# Altium footprint library custom-case.PcbLib: 20 footprints (part 1 of 2)
Each footprint in its own frame and in the unit in brackets; x right, y up, seen from the top. Pads: shape width x height; smd on the part's side, far side on the other; paste and mask are expansions set on the pad; w line width, h text height; cw(c..) or ccw(c..) is an arc to the next point about the centre after c.
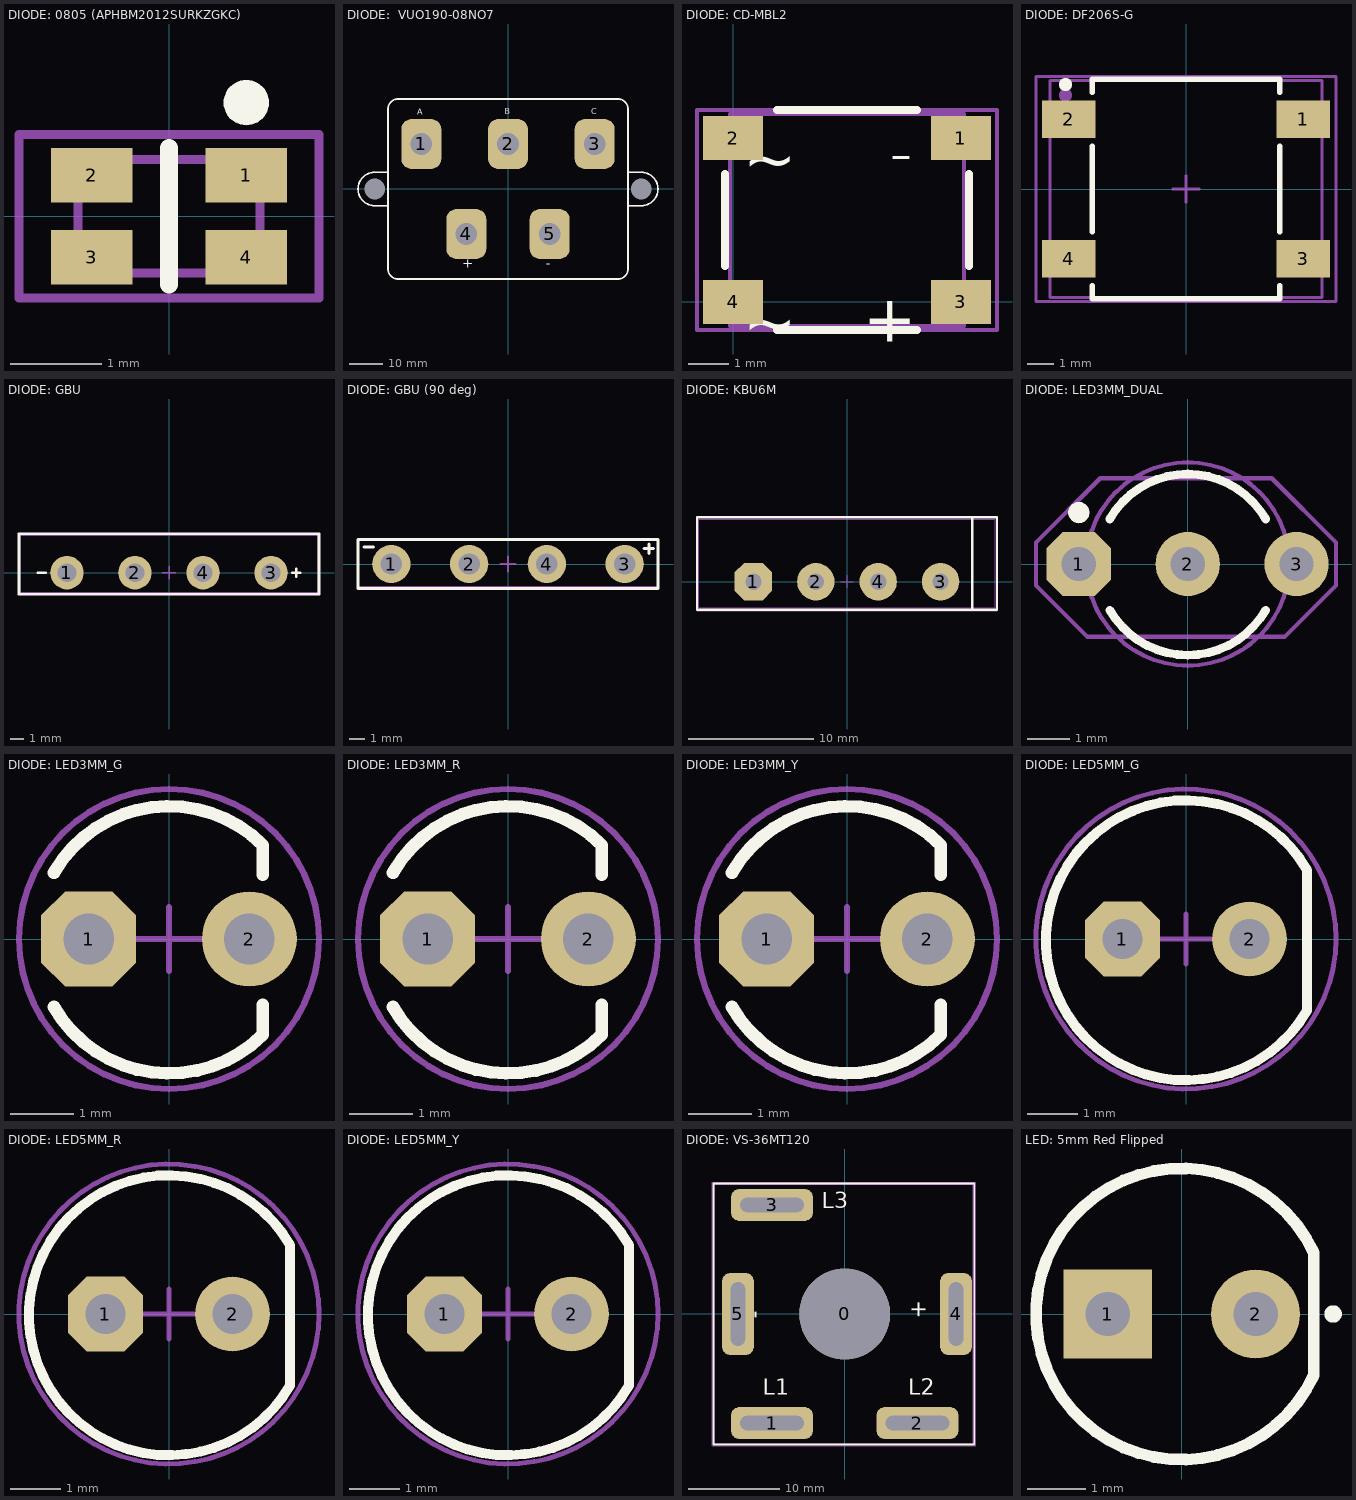
[diagram p0: the footprints below, top view; thin cyan lines are the x and y axes]

## DIODE: 0805 (APHBM2012SURKZGKC) [mm]
pads (5):
  rect 0.9x0.6 smd: 1(0.85,0.45) 2(-0.85,0.45) 3(-0.85,-0.45) 4(0.85,-0.45)
  round 0.5 on Top Overlay: ""(0.85,1.25)
Top Overlay:
  lines w0.2: 0,-0.75 0,0.75
Top Assy:
  lines w0.1: -1,-0.625 1,-0.625 1,0.625 -1,0.625 -1,-0.625
Size Area:
  lines w0.1: -1.65,-0.9 1.65,-0.9 1.65,0.9 -1.65,0.9 -1.65,-0.9
3D body "APHBM2012.STEP": height 0.43, standoff -0.03, extent -1,-0.625 1,0.625

## DIODE:  VUO190-08NO7 [mm]
pads (7):
  rrect50% 12x15 hole 6.5: 1(-26,13.5) 2(0,13.5) 3(26,13.5) 4(-12.5,-13.5) 5(12.5,-13.5)
  round 0 hole 6.2: MH(-40,0) MH(40,0)
Top Overlay:
  lines w0.5: -36,-5 -40,-5 cw(c-40,0) -40,5 -36,5 ; 36,-5 40,-5 ccw(c40,0) 40,5 36,5 ; -36,-24 ccw(c-33,-24) -33,-27 33,-27 ccw(c33,-24) 36,-24 36,24 ccw(c33,24) 33,27 -33,27 ccw(c-33,24) -36,24 -36,-24
  text "A" at -27.25,21.743 h3
  text "B" at -1,21.75 h3
  text "C" at 25,21.75 h3
  text "-" at 11.25,-24.75 h5
  text "+" at -13.75,-24.743 h5
Top Assy:
  lines w0.1: -36,-5 -40,-5 cw(c-40,0) -40,5 -36,5 ; 36,-5 40,-5 ccw(c40,0) 40,5 36,5 ; -36,-24 ccw(c-33,-24) -33,-27 33,-27 ccw(c33,-24) 36,-24 36,24 ccw(c33,24) 33,27 -33,27 ccw(c-33,24) -36,24 -36,-24
Size Area:
  lines w0.1: -36,-5 -40,-5 cw(c-40,0) -40,5 -36,5 ; 36,-5 40,-5 ccw(c40,0) 40,5 36,5 ; -36,-24 ccw(c-33,-24) -33,-27 33,-27 ccw(c33,-24) 36,-24 36,24 ccw(c33,24) 33,27 -33,27 ccw(c-33,24) -36,24 -36,-24

## DIODE: CD-MBL2 [mm]
pads (4):
  rect 1.5x1.1 smd: 1(5.7,4.1) 2(0,4.1) 3(5.7,0) 4(0,0)
Top Overlay:
  lines w0.2: -0.2,0.9 -0.2,3.2 ; 1.1,-0.7 4.6,-0.7 ; 1.1,4.8 4.6,4.8 ; 5.9,0.9 5.9,3.2
  text "~" at 1.6,4.4 h2
  text "~" at 1.6,0.3 h2
  text "+" at 4.6,0.4 h2
  text "-" at 4.5,4.4 h2
Top Assy:
  lines w0.1: -0.07,-0.6 5.77,-0.6 5.77,4.7 -0.07,4.7 -0.07,-0.6
  text "~" at 0.9,0.3 h2
  text "~" at 0.9,4.4 h2
  text "-" at 5.2,4.4 h2
  text "+" at 5.2,0.4 h2
Size Area:
  lines w0.1: -0.9,-0.7 -0.9,4.8 6.6,4.8 6.6,-0.7 -0.9,-0.7
3D body "CD-MBL206SL.STEP": height 1.22, standoff 0, extent -0.07,-0.6 5.77,4.7

## DIODE: DF206S-G [mm]
height 22
pads (6):
  rect 2x1.4 smd: 1(4.37,2.605) 2(-4.37,2.605) 3(4.37,-2.605) 4(-4.37,-2.605)
  round 0.5 on Mech1: ""(-4.5,3.5)
  round 0.5 on Top Overlay: ""(-4.5,3.9)
Top Overlay:
  lines w0.2: -3.5,-3.6 -3.5,-4.1 3.5,-4.1 3.5,-3.6 ; -3.5,-1.6 -3.5,1.6 ; -3.5,3.6 -3.5,4.1 3.5,4.1 3.5,3.6 ; 3.5,-1.6 3.5,1.6
Top Assy:
  lines w0.1: -5.075,-4.05 5.075,-4.05 5.075,4.05 -5.075,4.05 -5.075,-4.05
Size Area:
  lines w0.1: -0.5,0 0.5,0 ; 0,-0.5 0,0.5 ; -5.6,-4.2 5.6,-4.2 5.6,4.2 -5.6,4.2 -5.6,-4.2
3D body "User Library-PONTE-1.STEP": height 2.7, standoff 0, extent -5.075,-4.05 5.075,4.05

## DIODE: GBU [mm] "SMD Diode Bridge"
height 2
pads (4):
  round 2.5 hole 1.4: 1(-7.62,0) 2(-2.54,0) 3(7.62,0) 4(2.54,0)
Top Overlay:
  lines w0.2: -9.8,0 -9.2,0 ; 9.2,0 9.8,0 ; 9.5,-0.3 9.5,0.3 ; -11.2,-1.6 11.2,-1.6 11.2,2.9 -11.2,2.9 -11.2,-1.6
Top Assy:
  lines w0.1: -9.8,0 -9.2,0 ; 9.2,0 9.8,0 ; 9.5,-0.3 9.5,0.3 ; -11.15,-1.5 11.15,-1.5 11.15,-0.8 11.15,2.81 -11.15,2.81 -11.15,-1.5
Size Area:
  lines w0.1: -0.5,0 0.5,0 ; 0,-0.5 0,0.5 ; -11.2,-1.6 11.2,-1.6 11.2,2.9 -11.2,2.9 -11.2,-1.6
3D body "User Library-GBU10A.STEP": height 23.8, standoff -13.1, extent -11.15,-0.8 11.15,2.81

## DIODE: GBU (90 deg) [mm] "SMD Diode Bridge"
height 2
pads (4):
  round 2.5 hole 1.4: 1(-7.62,0) 2(-2.54,0) 3(7.62,0) 4(2.54,0)
Top Overlay:
  lines w0.2: -9.4,1.1 -8.8,1.1 ; 8.9,1 9.5,1 ; 9.2,0.7 9.2,1.3 ; -9.8,-1.6 9.8,-1.6 9.8,1.6 -9.8,1.6 -9.8,-1.6
Top Assy:
  lines w0.1: -9.4,1.1 -8.8,1.1 ; 8.9,1 9.5,1 ; 9.2,0.7 9.2,1.3 ; -9.8,-1.5 9.8,-1.5 9.8,1.6 -9.8,1.6 -9.8,-1.5
Size Area:
  lines w0.1: -0.5,0 0.5,0 ; 0,-0.5 0,0.5 ; -9.8,-1.6 9.8,-1.6 9.8,1.6 -9.8,1.6 -9.8,-1.6
3D body "User Library-GBU.STEP": height 1.71, standoff -6.16, extent -11.15,-0.35 11.15,24.58

## DIODE: KBU6M [mm]
height 22
pads (4):
  oct 3x3 hole 1.3: 1(-7.5,0)
  round 3 hole 1.3: 2(-2.5,0) 3(7.5,0) 4(2.5,0)
Top Overlay:
  lines w0.2: 10.04,-2.25 10.04,5.15 ; -12.025,-2.25 -12.025,5.15 12.025,5.15 12.025,-2.25 -12.025,-2.25
Top Assy:
  lines w0.1: 10,-2.1 10,5 ; -11.875,-2.1 -11.875,5 11.875,5 11.875,-2.1 -11.875,-2.1
Size Area:
  lines w0.1: -0.5,0 0.5,0 ; 0,-0.5 0,0.5 ; -12.025,-2.31 12.025,-2.31 12.025,5.15 -12.025,5.15 -12.025,-2.31
3D body "KBU6M.STEP": height 19.8, standoff -2, extent -11.85,-2.1 11.85,5

## DIODE: LED3MM_DUAL [mm]
height 10
pads (4):
  oct 1.5x1.5 hole 0.8: 1(-2.54,0)
  round 1.5 hole 0.8: 2(0,0) 3(2.54,0)
  round 0.5 on Top Overlay: ""(-2.54,1.2)
Top Overlay:
  lines w0.2: -1.819,-1.075 ccw(c0,-0.025) 1.819,-1.075 ; -1.819,1.05 cw(c0,0) 1.819,1.05
Top Assy:
  circle w0.1: c0,0 r2.372
Size Area:
  lines w0.1: -3.54,-0.5 -3.54,0.5 -2.04,2 1.96,2 3.46,0.5 3.46,-0.5 2.26,-1.7 -2.34,-1.7 -3.54,-0.5 ; -0.5,0 0.5,0 -0.5,0 ; 0,-0.5 0,0.5 0,-0.5
3D body "3mm_led_dual.STEP": height 11.5, standoff -1, extent -2.844,-1.75 2.84,1.75

## DIODE: LED3MM_G [mm] "Green Leaded Led, 3 mm"
height 12
pads (2):
  oct 1.5x1.5 hole 0.8: 1(-1.27,0)
  round 1.5 hole 0.8: 2(1.27,0)
Top Overlay:
  lines w0.2: -1.819,-1.075 ccw(c0,-0.025) 1.485,-1.51 1.485,-1.04 ; -1.819,1.05 cw(c0,0) 1.485,1.485 1.485,1.015
Top Assy:
  circle w0.1: c0,0 r2.372
Size Area:
  circle w0.1: c0,0 r2.372
  lines w0.1: -0.5,0 0.5,0 ; 0,-0.5 0,0.5
3D body "3mm_led_grn.STEP": height 12, standoff -1, extent -2,-2 2,2

## DIODE: LED3MM_R [mm] "Red Leaded Led, 3 mm"
height 12
pads (2):
  oct 1.5x1.5 hole 0.8: 1(-1.27,0)
  round 1.5 hole 0.8: 2(1.27,0)
Top Overlay:
  lines w0.2: -1.819,-1.075 ccw(c0,-0.025) 1.485,-1.51 1.485,-1.04 ; -1.819,1.05 cw(c0,0) 1.485,1.485 1.485,1.015
Top Assy:
  circle w0.1: c0,0 r2.372
Size Area:
  circle w0.1: c0,0 r2.372
  lines w0.1: -0.5,0 0.5,0 ; 0,-0.5 0,0.5
3D body "3mm_led_red.STEP": height 12, standoff -1, extent -2,-2 2,2

## DIODE: LED3MM_Y [mm] "Yellow Leaded Led, 3 mm"
height 12
pads (2):
  oct 1.5x1.5 hole 0.8: 1(-1.27,0)
  round 1.5 hole 0.8: 2(1.27,0)
Top Overlay:
  lines w0.2: 1.485,-1.51 cw(c0,-0.025) -1.819,-1.075 ccw(c0,-0.025) 1.485,-1.51 ; 1.485,-1.51 1.485,-1.04 1.485,-1.51 ; 1.485,1.485 ccw(c0,0) -1.819,1.05 cw(c0,0) 1.485,1.485 ; 1.485,1.485 1.485,1.015 1.485,1.485
Top Assy:
  circle w0.1: c0,0 r2.372
Size Area:
  circle w0.1: c0,0 r2.372
  lines w0.1: -0.5,0 0.5,0 ; 0,-0.5 0,0.5
3D body "3mm_led_yell.STEP": height 12, standoff -1, extent -2.003,-2.003 1.997,1.997

## DIODE: LED5MM_G [mm] "Green Leaded Led, 5 mm"
height 12
pads (2):
  oct 1.5x1.5 hole 0.8: 1(-1.27,0)
  round 1.5 hole 0.8: 2(1.27,0)
Top Overlay:
  lines w0.2: 2.425,-1.425 cw(c0,-0.025) 2.425,1.375 2.425,-1.425
Top Assy:
  circle w0.1: c0,0 r3
Size Area:
  circle w0.1: c0,0 r3
  lines w0.1: -0.5,0 0.5,0 ; 0,-0.5 0,0.5
3D body "5mm_led_grn.STEP": height 14.5, standoff -1, extent -3,-3 3,3

## DIODE: LED5MM_R [mm] "Red Leaded Led, 5 mm"
height 12
pads (2):
  oct 1.5x1.5 hole 0.8: 1(-1.27,0)
  round 1.5 hole 0.8: 2(1.27,0)
Top Overlay:
  lines w0.2: 2.425,-1.425 cw(c0,-0.025) 2.425,1.375 2.425,-1.425
Top Assy:
  circle w0.1: c0,0 r3
Size Area:
  circle w0.1: c0,0 r3
  lines w0.1: -0.5,0 0.5,0 ; 0,-0.5 0,0.5
3D body "5mm_led_red.STEP": height 14.5, standoff -1, extent -3,-3 3,3

## DIODE: LED5MM_Y [mm] "Yellow Leaded Led, 5 mm"
height 12
pads (2):
  oct 1.5x1.5 hole 0.8: 1(-1.27,0)
  round 1.5 hole 0.8: 2(1.27,0)
Top Overlay:
  lines w0.2: 2.425,-1.425 cw(c0,-0.025) 2.425,1.375 2.425,-1.425
Top Assy:
  circle w0.1: c0,0 r3
Size Area:
  circle w0.1: c0,0 r3
  lines w0.1: -0.5,0 0.5,0 ; 0,-0.5 0,0.5
3D body "5mm_led_yell.STEP": height 14.5, standoff -1, extent -3,-3 3,3

## DIODE: VS-36MT120 [mm]
pads (6):
  round 10 hole 10: 0(0,0)
  rrect50% 9x3.5 hole 1.6 slot 7 at 0 deg: 1(-8,-12) 2(8,-12) 3(-8,12)
  rrect50% 3.5x9 hole 1.6 slot 7 at 90 deg: 4(12.25,0) 5(-11.75,0)
Top Overlay:
  lines w0.2: -14.45,-14.35 -14.45,14.35 14.25,14.35 14.25,-14.35 -14.45,-14.35
  text "-" at -8.5,-0.5 h3
  text "+" at 9.5,-0.5 h3
  text "L2" at 7,-9.5 h3
  text "L3" at -2.5,11 h3
  text "L1" at -9,-9.5 h3
Top Assy:
  lines w0.1: -14.35,-14.25 14.15,-14.25 14.15,14.25 -14.35,14.25 -14.35,-14.25
Size Area:
  lines w0.1: -14.6,-14.5 14.4,-14.5 14.4,14.5 -14.6,14.5 -14.6,-14.5
3D body "D-63.stp": height 16, standoff -6, extent -14.35,-14.25 14.15,14.25

## LED: 5mm Red Flipped [mil]
pads (2):
  rect 60x60 / inner rect 60x60 / far side rect 0x0 hole 30 unplated: 1(-50,0)
  round 60 / inner round 60 / far side round 0 hole 30 unplated: 2(50,0)
Top Overlay:
  circle w7.87: c102.36,0 r1.97
  lines w7.87: 89.2,-41.6 cw(c0,0) 89.2,41.6 89.2,-41.6
3D body "LED-D5R.SLDPRT": height 19.69, standoff -824.6, extent -118.11,-117.8 98.43,117.8